# EAGLE library part LT1534CS-1PBF (library LT1534CS-1PBF)
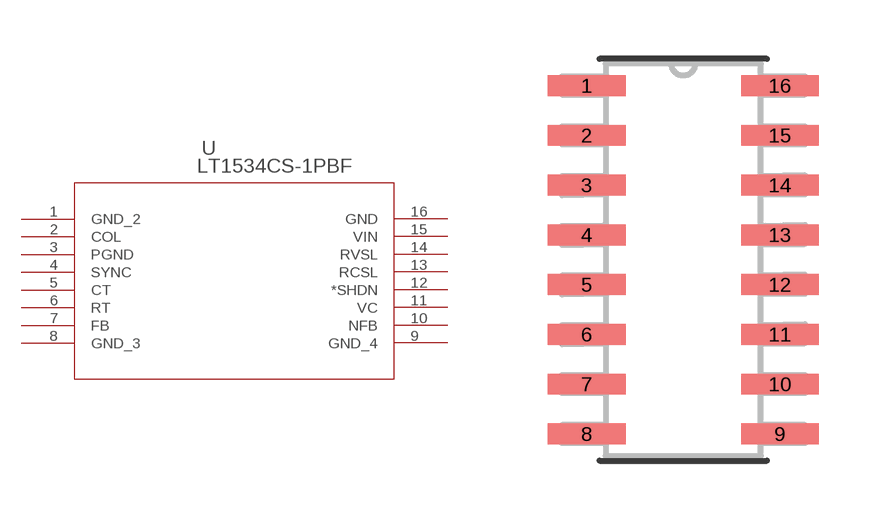
[diagram p0: symbol with the pads of SO-16_S; footprint SO-16_S]

Designator prefix U

## LT1534CS-1PBF (Description: LT1534 - Ultralow Noise 2A Switching Regulator; Digi-Key_Part_Number: LT1534CS-1#PBF-ND; Digi-Key_Purchase_URL: https://www.digikey.de/product-detail/en/linear-technology-analog-devices/LT1534CS-1-PBF/LT1534CS-1-PBF-ND/963653?utm_source=snapeda&utm_medium=aggregator&utm_campaign=symbol; MF: Linear Technology; MP: LT1534CS-1#PBF; Package: SOIC-16 Linear Technology)  [SO-16_S]
1  GND_2  pwr
2  COL  pas
3  PGND  pwr
4  SYNC  pas
5  CT  pas
6  RT  pas
7  FB  pas
8  GND_3  pwr
9  GND_4  pwr
10  NFB  out
11  VC  out
12  *SHDN  out
13  RCSL  pas
14  RVSL  pas
15  VIN  in
16  GND  pwr

## Footprint SO-16_S (pad centres in mm)
smd 1.981 x 0.533: 1 -2.464,4.445; 2 -2.464,3.175; 3 -2.464,1.905; 4 -2.464,0.635; 5 -2.464,-0.635; 6 -2.464,-1.905; 7 -2.464,-3.175; 8 -2.464,-4.445; 9 2.464,-4.445; 10 2.464,-3.175; 11 2.464,-1.905; 12 2.464,-0.635; 13 2.464,0.635; 14 2.464,1.905; 15 2.464,3.175; 16 2.464,4.445